# Altium integrated library CAP 1206.IntLib: 7 symbols
Pins are listed as number, name and electrical type; pins without a type are passive.

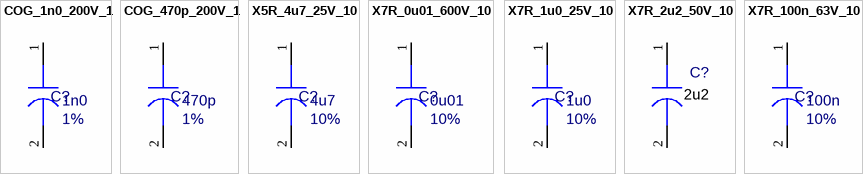
[diagram p0: symbols COG_1n0_200V_1 to X7R_100n_63V_10]

## COG_1n0_200V_1
designator C?, comment value 1n0  Tolerance: 1%  (hidden comment: AWT25-500019)
Capacitor, 1.0nF 200V; ECAD_Revision: 2; Librarian: US; PartNumber: AWT25-500019; HelpURL: *; Item: *; Voltage: 200V
simulation model CAP (Capacitor)
footprint C1206
pins: 1, 2

## COG_470p_200V_1
designator C?, comment value 470p  Tolerance: 1%  (hidden comment: AWT25-500021)
Capacitor, 470pF 200V; ECAD_Revision: 2; Librarian: US; PartNumber: AWT25-500021; HelpURL: *; Item: *; Voltage: 200V
simulation model CAP (Capacitor)
footprint C1206
pins: 1, 2

## X5R_4u7_25V_10
designator C?, comment value 4u7  Tolerance: 10%  (hidden comment: 52619-0129)
Capacitor, 4.7uF 25V; ECAD_Revision: 1; Librarian: US; PartNumber: 52619-0129; HelpURL: *; Item: *; Voltage: 25V
simulation model CAP (Capacitor)
footprint C1206
pins: 1, 2

## X7R_0u01_600V_10
designator C?, comment value 0u01  Tolerance: 10%  (hidden comment: 60063-0016)
Capacitor, 0.01uF 600V; ECAD_Revision: 1; Librarian: US; PartNumber: 60063-0016; HelpURL: *; Item: *; Voltage: 600V
simulation model CAP (Capacitor)
footprint C1206
pins: 1, 2

## X7R_1u0_25V_10
designator C?, comment value 1u0  Tolerance: 10%  (hidden comment: 52619-0103)
Capacitor, 1.0uF 25V; ECAD_Revision: 1; Librarian: US; PartNumber: 52619-0103; HelpURL: *; Item: *; Voltage: 25V
simulation model CAP (Capacitor)
footprint C1206
pins: 1, 2

## X7R_2u2_50V_10
designator C?, comment value 2u2  (hidden comment: AWT25-000133)
Capacitor, 2.2uF 10% 50V; ECAD_Revision: 1; Librarian: UK; PartNumber: AWT25-000133; Tolerance: 10%; Voltage: 50V; HelpURL: *; Item: *
simulation model CAP (Capacitor)
footprint C1206
pins: 1, 2

## X7R_100n_63V_10
designator C?, comment value 100n  Tolerance: 10%  (hidden comment: CXD100N0K063M)
Capacitor, 100nF 10% 63V; ECAD_Revision: 1; Librarian: UK; PartNumber: CXD100N0K063M; HelpURL: *; Item: *; Voltage: 63V
simulation model CAP (Capacitor)
footprint C1206
pins: 1, 2